# Altium footprint library GameManFootPrints.PcbLib: 49 footprints (part 1 of 4)
Each footprint in its own frame and in the unit in brackets; x right, y up, seen from the top. Pads: shape width x height; smd on the part's side, far side on the other; paste and mask are expansions set on the pad; w line width, h text height; cw(c..) or ccw(c..) is an arc to the next point about the centre after c.
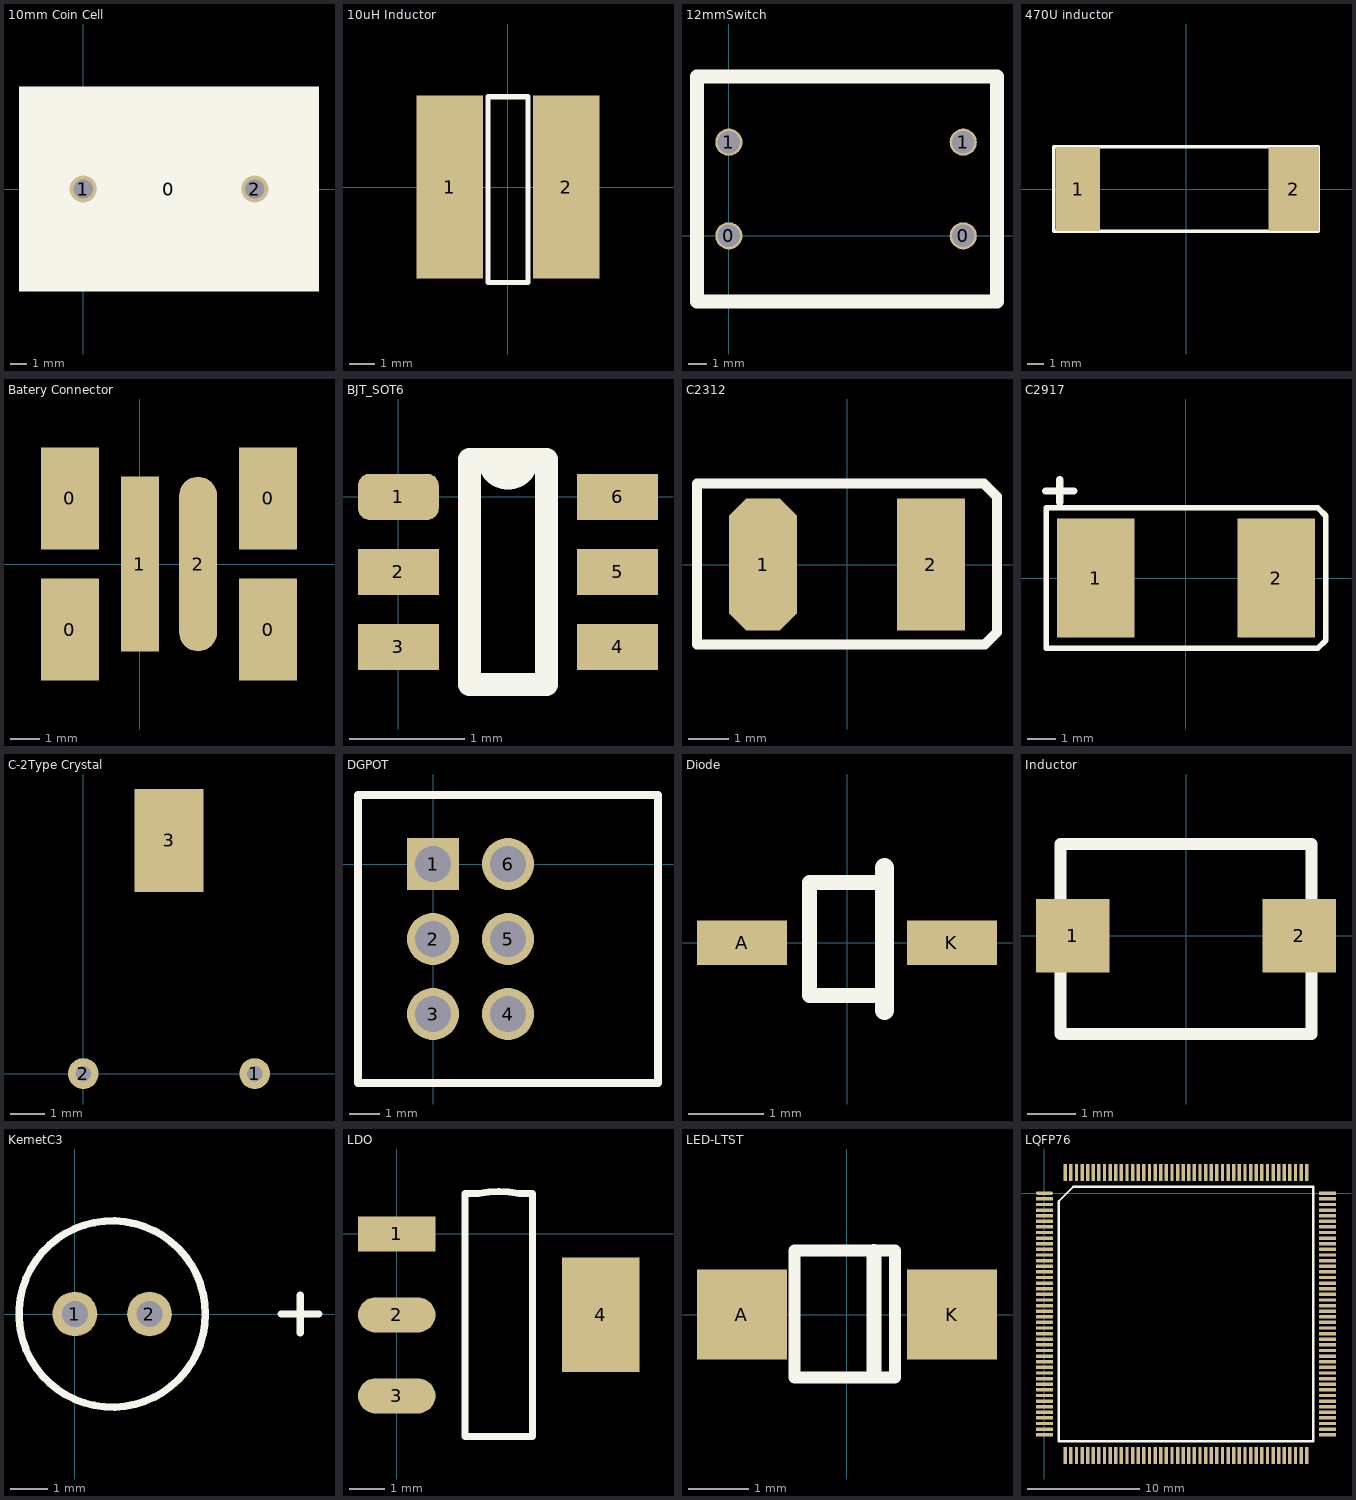
[diagram p0: the footprints below, top view; thin cyan lines are the x and y axes]

## 10mm Coin Cell [mm]
pads (3):
  rect 18.77x12.83 on Top Overlay: 0(5.37,0)
  round 1.7 hole 1.2: 1(0,0) 2(10.74,0)

## 10uH Inductor [mm]
pads (2):
  rect 2.65x7.3 smd: 1(-2.325,0) 2(2.325,0)
Top Overlay:
  lines w0.2: -0.8,-3.8 0.8,-3.8 0.8,3.6 -0.8,3.6 -0.8,1.7 -0.8,-3.8

## 12mmSwitch [mm]
pads (4):
  round 1.45 hole 1.2: 0(0,0) 0(12.5,0) 1(0,5) 1(12.5,5)
Top Overlay:
  lines w0.762: -1.7,-3.5 -1.7,8.5 14.3,8.5 14.3,-3.5 -1.7,-3.5

## 470U inductor [mm]
pads (2):
  rect 2.6x5 smd: 1(-6.4,0)
  rect 3x5 smd: 2(6.4,0)
Top Overlay:
  lines w0.2: -7.85,-2.5 -7.85,0 -7.85,2.5 7.85,2.5 7.85,-2.5 -7.85,-2.5

## Batery Connector [mm]
pads (6):
  rect 2x3.5 smd: 0(-2.4,-2.25) 0(-2.4,2.25) 0(4.4,-2.25) 0(4.4,2.25)
  rect 1.3x6 smd: 1(0,0)
  oval 1.3x6 smd: 2(2,0)

## BJT_SOT6 [mm]
pads (6):
  rrect50% 0.7x0.4 smd: 1(0,0)
  rect 0.7x0.4 smd: 2(0,-0.65) 3(0,-1.3) 4(1.9,-1.3) 5(1.9,-0.65) 6(1.9,0)
Top Overlay:
  lines w0.2: 0.615,-1.625 1.285,-1.625 1.285,0.325 0.787,0.325 ccw(c0.95,0.325) 1.112,0.325 0.615,0.325 0.615,-1.625

## C2312 [mil]
pads (2):
  oct 66.93x130 smd: 1(-82.5,0)
  rect 66.93x130 smd: 2(82.5,0)
Top Overlay:
  lines w10: -147.5,-78.74 135.43,-78.74 147.5,-66.67 147.5,66.67 134.44,79.72 -147.5,79.72 -147.5,0 -147.5,-78.74

## C2917 [mm]
pads (2):
  rect 2.77x4.25 smd: 1(-3.22,0) 2(3.22,0)
Top Overlay:
  lines w0.2: -4.98,-2.5 4.7,-2.5 4.98,-2.22 4.98,2.22 4.7,2.5 -4.98,2.5 -4.98,0 -4.98,-2.5
  lines w0.254: -5,3.1 -4,3.1 ; -4.5,2.7 -4.5,3.5

## C-2Type Crystal [mm]
pads (3):
  round 0.9 hole 0.45: 1(5,0) 2(0,0)
  rect 2x3 smd: 3(2.5,6.8)

## DGPOT [mm]
pads (6):
  rect 1.735x1.735 hole 1.2 mask+0.102: 1(0,0)
  round 1.735 hole 1.2 mask+0.102: 2(0,-2.5) 3(0,-5) 4(2.5,-5) 5(2.5,-2.5) 6(2.5,0)
Top Overlay:
  lines w0.254: 7.4,-7.3 -2.5,-7.3 -2.5,1.1 -2.5,2.3 7.4,2.3 ; 7.5,-7.3 7.5,2.3

## Diode [mm]
pads (2):
  rect 1.2x0.6 smd: A(-1.4,0) K(1.4,0)
Top Overlay:
  lines w0.2: 0.5,0.7 0.5,-0.7 -0.5,-0.7 -0.5,0.8 0.5,0.8
  lines w0.254: 0.5,-0.9 0.5,1

## Inductor [mil]
pads (2):
  rect 60x60 smd: 1(-92.5,0) 2(92.5,0)
Top Overlay:
  lines w10: -102.5,-80 102.5,-80 102.5,75 -102.5,75 -102.5,0 -102.5,-80

## KemetC3 [mm]
pads (2):
  round 1.2 hole 0.7: 1(0,0) 2(2,0)
Top Overlay:
  circle w0.2: c1,0 r2.5
  lines w0.2: 5.532,0 6.548,0 ; 6.04,-0.508 6.04,0.508

## LDO [mm]
pads (4):
  rect 2.2x1 smd: 1(0,0)
  oval 2.2x1 smd: 2(0,-2.3) 3(0,-4.6)
  rect 2.2x3.25 smd: 4(5.8,-2.3)
Top Overlay:
  lines w0.2: 1.935,-5.75 1.935,1.15 2.325,1.15 cw(c2.9,-2.031) 3.475,1.15 3.865,1.15 3.865,-5.75 1.935,-5.75

## LED-LTST [mm]
pads (2):
  rect 1.5x1.5 smd: A(-1.75,0) K(1.75,0)
Top Overlay:
  lines w0.2: -0.875,-1.05 0.8,-1.05 0.8,1.075 -0.875,1.075 -0.875,-1.05
  lines w0.254: 0.45,-1 0.45,1.05

## LQFP76 [mm]
pads (176):
  oval 1.5x0.3 smd: 1(0,0)
  rect 1.5x0.3 smd: 2(0,-0.5) 3(0,-1) 4(0,-1.5) 5(0,-2) 6(0,-2.5) 7(0,-3) 8(0,-3.5) 9(0,-4) 10(0,-4.5) 11(0,-5) 12(0,-5.5) 13(0,-6) 14(0,-6.5) 15(0,-7) 16(0,-7.5) 17(0,-8) 18(0,-8.5) 19(0,-9) 20(0,-9.5) 21(0,-10) 22(0,-10.5) 23(0,-11) 24(0,-11.5) 25(0,-12) 26(0,-12.5) 27(0,-13) 28(0,-13.5) 29(0,-14) 30(0,-14.5) 31(0,-15) 32(0,-15.5) 33(0,-16) 34(0,-16.5) 35(0,-17) 36(0,-17.5) 37(0,-18) 38(0,-18.5) 39(0,-19) 40(0,-19.5) 41(0,-20) 42(0,-20.5) 43(0,-21) 44(0,-21.5) 89(25.2,-21.5) 90(25.2,-21) 91(25.2,-20.5) 92(25.2,-20) 93(25.2,-19.5) 94(25.2,-19) 95(25.2,-18.5) 96(25.2,-18) 97(25.2,-17.5) 98(25.2,-17) 99(25.2,-16.5) 100(25.2,-16) 101(25.2,-15.5) 102(25.2,-15) 103(25.2,-14.5) 104(25.2,-14) 105(25.2,-13.5) 106(25.2,-13) 107(25.2,-12.5) 108(25.2,-12) 109(25.2,-11.5) 110(25.2,-11) 111(25.2,-10.5) 112(25.2,-10) 113(25.2,-9.5) 114(25.2,-9) 115(25.2,-8.5) 116(25.2,-8) 117(25.2,-7.5) 118(25.2,-7) 119(25.2,-6.5) 120(25.2,-6) 121(25.2,-5.5) 122(25.2,-5) 123(25.2,-4.5) 124(25.2,-4) 125(25.2,-3.5) 126(25.2,-3) 127(25.2,-2.5) 128(25.2,-2) 129(25.2,-1.5) 130(25.2,-1) 131(25.2,-0.5) 132(25.2,0)
  rect 0.3x1.5 smd: 45(1.85,-23.35) 46(2.35,-23.35) 47(2.85,-23.35) 48(3.35,-23.35) 49(3.85,-23.35) 50(4.35,-23.35) 51(4.85,-23.35) 52(5.35,-23.35) 53(5.85,-23.35) 54(6.35,-23.35) 55(6.85,-23.35) 56(7.35,-23.35) 57(7.85,-23.35) 58(8.35,-23.35) 59(8.85,-23.35) 60(9.35,-23.35) 61(9.85,-23.35) 62(10.35,-23.35) 63(10.85,-23.35) 64(11.35,-23.35) 65(11.85,-23.35) 66(12.35,-23.35) 67(12.85,-23.35) 68(13.35,-23.35) 69(13.85,-23.35) 70(14.35,-23.35) 71(14.85,-23.35) 72(15.35,-23.35) 73(15.85,-23.35) 74(16.35,-23.35) 75(16.85,-23.35) 76(17.35,-23.35) 77(17.85,-23.35) 78(18.35,-23.35) 79(18.85,-23.35) 80(19.35,-23.35) 81(19.85,-23.35) 82(20.35,-23.35) 83(20.85,-23.35) 84(21.35,-23.35) 85(21.85,-23.35) 86(22.35,-23.35) 87(22.85,-23.35) 88(23.35,-23.35) 133(23.35,1.85) 134(22.85,1.85) 135(22.35,1.85) 136(21.85,1.85) 137(21.35,1.85) 138(20.85,1.85) 139(20.35,1.85) 140(19.85,1.85) 141(19.35,1.85) 142(18.85,1.85) 143(18.35,1.85) 144(17.85,1.85) 145(17.35,1.85) 146(16.85,1.85) 147(16.35,1.85) 148(15.85,1.85) 149(15.35,1.85) 150(14.85,1.85) 151(14.35,1.85) 152(13.85,1.85) 153(13.35,1.85) 154(12.85,1.85) 155(12.35,1.85) 156(11.85,1.85) 157(11.35,1.85) 158(10.85,1.85) 159(10.35,1.85) 160(9.85,1.85) 161(9.35,1.85) 162(8.85,1.85) 163(8.35,1.85) 164(7.85,1.85) 165(7.35,1.85) 166(6.85,1.85) 167(6.35,1.85) 168(5.85,1.85) 169(5.35,1.85) 170(4.85,1.85) 171(4.35,1.85) 172(3.85,1.85) 173(3.35,1.85) 174(2.85,1.85) 175(2.35,1.85) 176(1.85,1.85)
Top Overlay:
  lines w0.2: 1.285,-22.065 1.285,-0.72 2.57,0.565 23.915,0.565 23.915,-22.065 1.285,-22.065